# Altium footprint library WR-FAST.PcbLib: 56 footprints (part 2 of 4)
Each footprint in its own frame and in the unit in brackets; x right, y up, seen from the top. Pads: shape width x height; smd on the part's side, far side on the other; paste and mask are expansions set on the pad; w line width, h text height; cw(c..) or ccw(c..) is an arc to the next point about the centre after c.
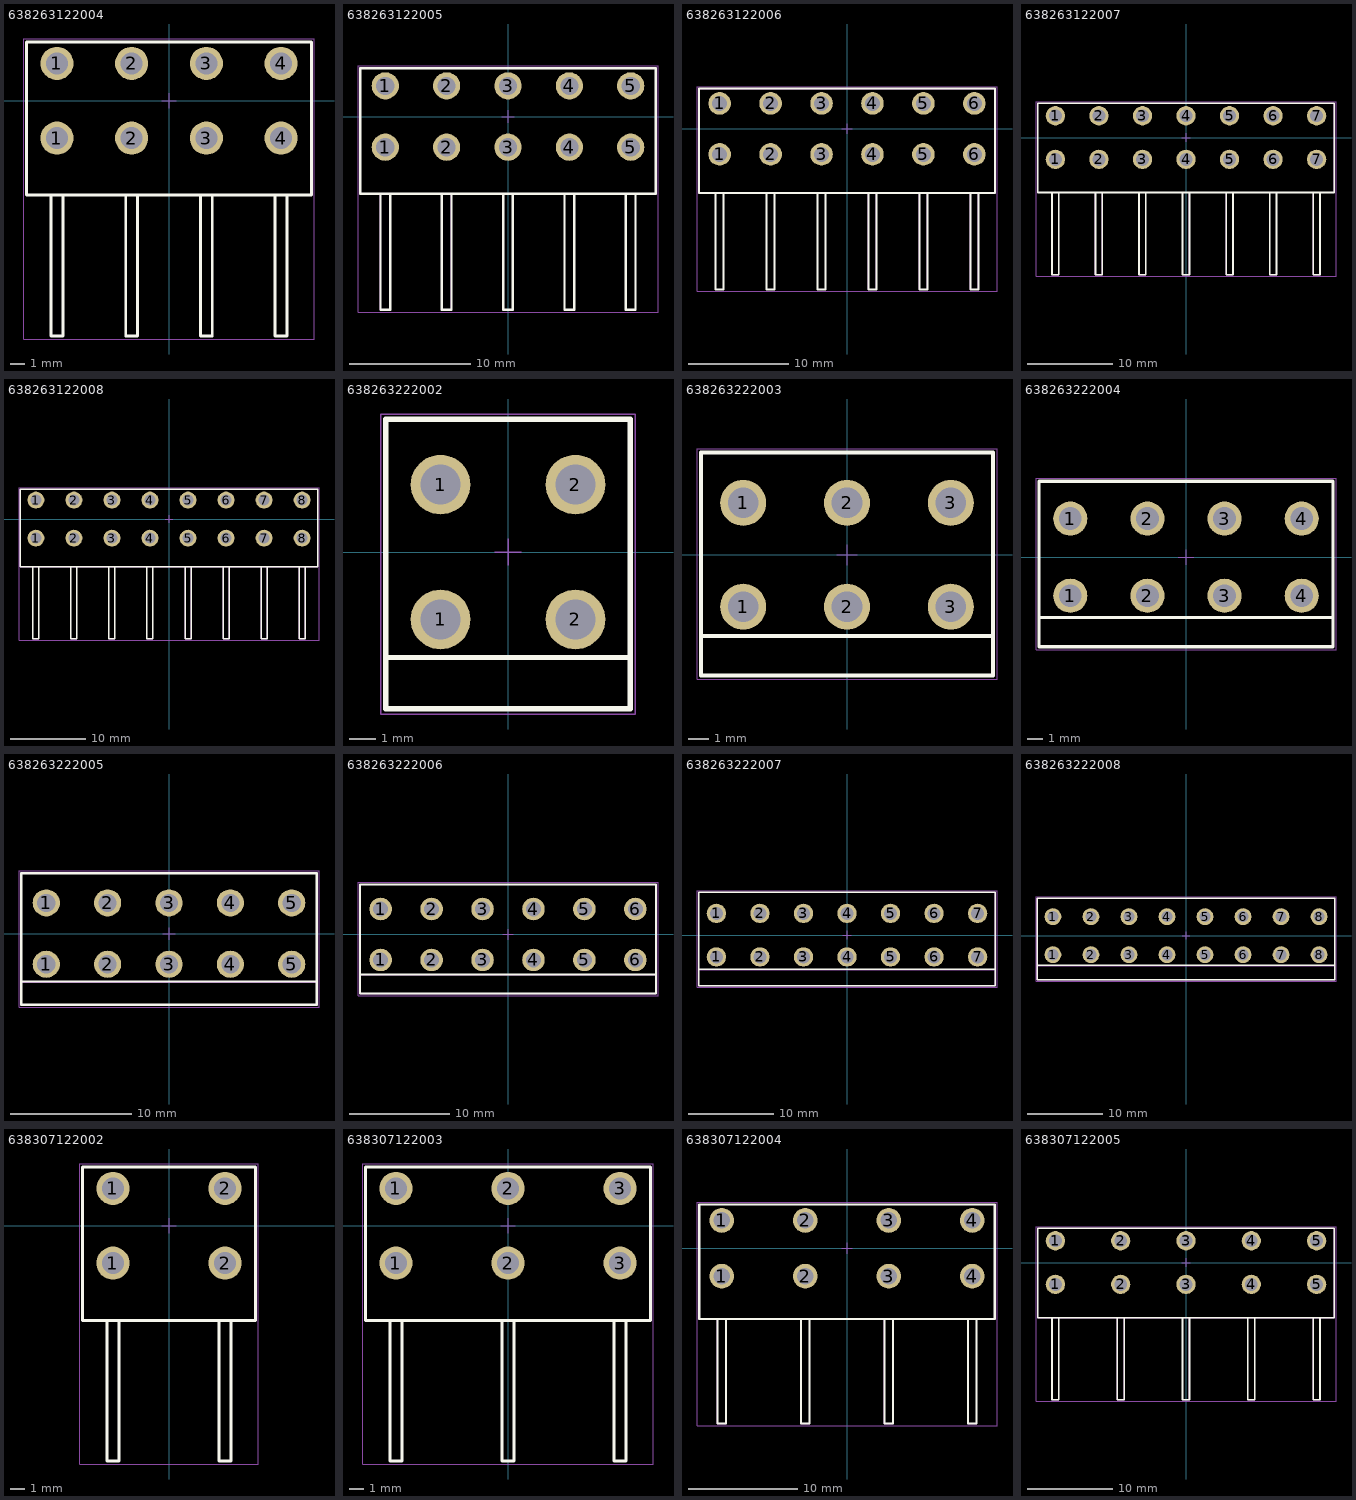
[diagram p1: the footprints below, top view; thin cyan lines are the x and y axes]

## 638263122004 [mm] "5.08mm THT Male Right Angled Header Blade 6.3, 4p"
height 11
pads (8):
  round 2.25 hole 1.5: 1(-7.62,-2.54) 1(-7.62,2.54) 2(-2.54,-2.54) 2(-2.54,2.54) 3(2.54,-2.54) 3(2.54,2.54) 4(7.62,-2.54) 4(7.62,2.54)
Top Overlay:
  lines w0.2: -8.02,-6.4 -8.02,-16 -7.22,-16 -7.22,-6.4 ; -2.94,-6.4 -2.94,-16 -2.14,-16 -2.14,-6.4 ; 2.14,-6.4 2.14,-16 2.94,-16 2.94,-6.4 ; 7.22,-6.4 7.22,-16 8.02,-16 8.02,-6.4 ; -9.68,-6.4 -9.68,4 9.68,4 9.68,-6.4 -9.68,-6.4
Top Designator:
  text ".Designator" at -7.498,-0.5 h1.5
Top Component Outline:
  lines w0.1: -8.02,-6.4 -8.02,-16 -7.22,-16 -7.22,-6.4 ; -2.94,-6.4 -2.94,-16 -2.14,-16 -2.14,-6.4 ; 2.14,-6.4 2.14,-16 2.94,-16 2.94,-6.4 ; 7.22,-6.4 7.22,-16 8.02,-16 8.02,-6.4 ; -9.68,-6.4 9.68,-6.4 9.68,4 -9.68,4 -9.68,-6.4
Top Courtyard:
  lines w0.05: -0.5,0 0.5,0 ; 0,-0.5 0,0.5 ; -9.88,-16.2 -9.88,4.2 9.88,4.2 9.88,-16.2 -9.88,-16.2
3D body "638263122004.stp": height 11.3, standoff -3.5, extent -9.68,-16.049 9.68,4

## 638263122005 [mm] "5.08mm THT Male Right Angled Header Blade 6.3, 5p"
height 11
pads (10):
  round 2.25 hole 1.5: 1(-10.16,-2.54) 1(-10.16,2.54) 2(-5.08,-2.54) 2(-5.08,2.54) 3(0,-2.54) 3(0,2.54) 4(5.08,-2.54) 4(5.08,2.54) 5(10.16,-2.54) 5(10.16,2.54)
Top Overlay:
  lines w0.2: -10.56,-6.4 -10.56,-16 -9.76,-16 -9.76,-6.4 ; -5.48,-6.4 -5.48,-16 -4.68,-16 -4.68,-6.4 ; -0.4,-6.4 -0.4,-16 0.4,-16 0.4,-6.4 ; 4.68,-6.4 4.68,-16 5.48,-16 5.48,-6.4 ; 9.76,-6.4 9.76,-16 10.56,-16 10.56,-6.4 ; -12.22,-6.4 12.22,-6.4 12.22,4 -12.22,4 -12.22,-6.4
Top Designator:
  text ".Designator" at -7.498,-0.5 h1.5
Top Component Outline:
  lines w0.1: -10.56,-6.4 -10.56,-16 -9.76,-16 -9.76,-6.4 ; -5.48,-6.4 -5.48,-16 -4.68,-16 -4.68,-6.4 ; -0.4,-6.4 -0.4,-16 0.4,-16 0.4,-6.4 ; 4.68,-6.4 4.68,-16 5.48,-16 5.48,-6.4 ; 9.76,-6.4 9.76,-16 10.56,-16 10.56,-6.4 ; -12.22,-6.4 -12.22,4 12.22,4 12.22,-6.4 -12.22,-6.4
Top Courtyard:
  lines w0.05: -0.5,0 0.5,0 ; 0,-0.5 0,0.5 ; -12.42,-16.2 12.42,-16.2 12.42,4.2 -12.42,4.2 -12.42,-16.2
3D body "638263122005.stp": height 11.3, standoff -3.5, extent -12.22,-16.049 12.22,4

## 638263122006 [mm] "5.08mm THT Male Right Angled Header Blade 6.3, 6p"
height 11
pads (12):
  round 2.25 hole 1.5: 1(-12.7,-2.54) 1(-12.7,2.54) 2(-7.62,-2.54) 2(-7.62,2.54) 3(-2.54,-2.54) 3(-2.54,2.54) 4(2.54,-2.54) 4(2.54,2.54) 5(7.62,-2.54) 5(7.62,2.54) 6(12.7,-2.54) 6(12.7,2.54)
Top Overlay:
  lines w0.2: -13.1,-6.4 -13.1,-16 -12.3,-16 -12.3,-6.4 ; -8.02,-6.4 -8.02,-16 -7.22,-16 -7.22,-6.4 ; -2.94,-6.4 -2.94,-16 -2.14,-16 -2.14,-6.4 ; 2.14,-6.4 2.14,-16 2.94,-16 2.94,-6.4 ; 7.22,-6.4 7.22,-16 8.02,-16 8.02,-6.4 ; 12.3,-6.4 12.3,-16 13.1,-16 13.1,-6.4 ; -14.76,-6.4 14.76,-6.4 14.76,4 -14.76,4 -14.76,-6.4
Top Designator:
  text ".Designator" at -7.498,-0.5 h1.5
Top Component Outline:
  lines w0.1: -13.1,-6.4 -13.1,-16 -12.3,-16 -12.3,-6.4 ; -8.02,-6.4 -8.02,-16 -7.22,-16 -7.22,-6.4 ; -2.94,-6.4 -2.94,-16 -2.14,-16 -2.14,-6.4 ; 2.14,-6.4 2.14,-16 2.94,-16 2.94,-6.4 ; 7.22,-6.4 7.22,-16 8.02,-16 8.02,-6.4 ; 12.3,-6.4 12.3,-16 13.1,-16 13.1,-6.4 ; -14.76,-6.4 -14.76,4 14.76,4 14.76,-6.4 -14.76,-6.4
Top Courtyard:
  lines w0.05: -0.5,0 0.5,0 ; 0,-0.5 0,0.5 ; -14.96,-16.2 14.96,-16.2 14.96,4.2 -14.96,4.2 -14.96,-16.2
3D body "638263122006.stp": height 11.3, standoff -3.5, extent -14.76,-16.049 14.76,4

## 638263122007 [mm] "5.08mm THT Male Right Angled Header Blade 6.3, 7p"
height 11
pads (14):
  round 2.25 hole 1.5: 1(-15.24,-2.54) 1(-15.24,2.54) 2(-10.16,-2.54) 2(-10.16,2.54) 3(-5.08,-2.54) 3(-5.08,2.54) 4(0,-2.54) 4(0,2.54) 5(5.08,-2.54) 5(5.08,2.54) 6(10.16,-2.54) 6(10.16,2.54) 7(15.24,-2.54) 7(15.24,2.54)
Top Overlay:
  lines w0.2: -15.64,-6.4 -15.64,-16 -14.84,-16 -14.84,-6.4 ; -10.56,-6.4 -10.56,-16 -9.76,-16 -9.76,-6.4 ; -5.48,-6.4 -5.48,-16 -4.68,-16 -4.68,-6.4 ; -0.4,-6.4 -0.4,-16 0.4,-16 0.4,-6.4 ; 4.68,-6.4 4.68,-16 5.48,-16 5.48,-6.4 ; 9.76,-6.4 9.76,-16 10.56,-16 10.56,-6.4 ; 14.84,-6.4 14.84,-16 15.64,-16 15.64,-6.4 ; -17.3,-6.4 -17.3,4 17.3,4 17.3,-6.4 -17.3,-6.4
Top Designator:
  text ".Designator" at -7.498,-0.5 h1.5
Top Component Outline:
  lines w0.1: -15.64,-6.4 -15.64,-16 -14.84,-16 -14.84,-6.4 ; -10.56,-6.4 -10.56,-16 -9.76,-16 -9.76,-6.4 ; -5.48,-6.4 -5.48,-16 -4.68,-16 -4.68,-6.4 ; -0.4,-6.4 -0.4,-16 0.4,-16 0.4,-6.4 ; 4.68,-6.4 4.68,-16 5.48,-16 5.48,-6.4 ; 9.76,-6.4 9.76,-16 10.56,-16 10.56,-6.4 ; 14.84,-6.4 14.84,-16 15.64,-16 15.64,-6.4 ; -17.3,-6.4 17.3,-6.4 17.3,4 -17.3,4 -17.3,-6.4
Top Courtyard:
  lines w0.05: -0.5,0 0.5,0 ; 0,-0.5 0,0.5 ; -17.5,-16.2 -17.5,4.2 17.5,4.2 17.5,-16.2 -17.5,-16.2
3D body "638263122007.stp": height 11.3, standoff -3.5, extent -17.3,-16.049 17.3,4

## 638263122008 [mm] "5.08mm THT Male Right Angled Header Blade 6.3, 8p"
height 11
pads (16):
  round 2.25 hole 1.5: 1(-17.78,-2.54) 1(-17.78,2.54) 2(-12.7,-2.54) 2(-12.7,2.54) 3(-7.62,-2.54) 3(-7.62,2.54) 4(-2.54,-2.54) 4(-2.54,2.54) 5(2.54,-2.54) 5(2.54,2.54) 6(7.62,-2.54) 6(7.62,2.54) 7(12.7,-2.54) 7(12.7,2.54) 8(17.78,-2.54) 8(17.78,2.54)
Top Overlay:
  lines w0.2: -18.18,-6.4 -18.18,-16 -17.38,-16 -17.38,-6.4 ; -13.1,-6.4 -13.1,-16 -12.3,-16 -12.3,-6.4 ; -8.02,-6.4 -8.02,-16 -7.22,-16 -7.22,-6.4 ; -2.94,-6.4 -2.94,-16 -2.14,-16 -2.14,-6.4 ; 2.14,-6.4 2.14,-16 2.94,-16 2.94,-6.4 ; 7.22,-6.4 7.22,-16 8.02,-16 8.02,-6.4 ; 12.3,-6.4 12.3,-16 13.1,-16 13.1,-6.4 ; 17.38,-6.4 17.38,-16 18.18,-16 18.18,-6.4 ; -19.84,-6.4 19.84,-6.4 19.84,4 -19.84,4 -19.84,-6.4
Top Designator:
  text ".Designator" at -7.498,-0.5 h1.5
Top Component Outline:
  lines w0.1: -18.18,-6.4 -18.18,-16 -17.38,-16 -17.38,-6.4 ; -13.1,-6.4 -13.1,-16 -12.3,-16 -12.3,-6.4 ; -8.02,-6.4 -8.02,-16 -7.22,-16 -7.22,-6.4 ; -2.94,-6.4 -2.94,-16 -2.14,-16 -2.14,-6.4 ; 2.14,-6.4 2.14,-16 2.94,-16 2.94,-6.4 ; 7.22,-6.4 7.22,-16 8.02,-16 8.02,-6.4 ; 12.3,-6.4 12.3,-16 13.1,-16 13.1,-6.4 ; 17.38,-6.4 17.38,-16 18.18,-16 18.18,-6.4 ; -19.84,-6.4 -19.84,4 19.84,4 19.84,-6.4 -19.84,-6.4
Top Courtyard:
  lines w0.05: -0.5,0 0.5,0 ; 0,-0.5 0,0.5 ; -20.04,-16.2 20.04,-16.2 20.04,4.2 -20.04,4.2 -20.04,-16.2
3D body "638263122008.stp": height 11.3, standoff -3.5, extent -19.84,-16.049 19.84,4

## 638263222002 [mm] "5.08mm THT Male Vertical Header Blade 6.3, 2p"
height 21
pads (4):
  round 2.25 hole 1.5: 1(-2.54,-2.54) 1(-2.54,2.54) 2(2.54,-2.54) 2(2.54,2.54)
Top Overlay:
  lines w0.2: -4.6,-3.97 4.6,-3.97 ; -4.6,-5.9 -4.6,5 4.6,5 4.6,-5.9 -4.6,-5.9
Top Designator:
  text ".Designator" at -7.498,-0.5 h1.5
Top Component Outline:
  lines w0.1: -4.6,-4.02 4.6,-4.02 ; -4.6,-5.9 4.6,-5.9 4.6,5 -4.6,5 -4.6,-5.9
Top Courtyard:
  lines w0.05: -0.5,0 0.5,0 ; 0,-0.5 0,0.5 ; -4.8,-6.1 4.8,-6.1 4.8,5.2 -4.8,5.2 -4.8,-6.1
3D body "638263222002.stp": height 21.1, standoff -3.9, extent -4.6,-6.1 4.6,4.8

## 638263222003 [mm] "5.08mm THT Male Vertical Header Blade 6.3, 3p"
height 21
pads (6):
  round 2.25 hole 1.5: 1(-5.08,-2.54) 1(-5.08,2.54) 2(0,-2.54) 2(0,2.54) 3(5.08,-2.54) 3(5.08,2.54)
Top Overlay:
  lines w0.2: -7.14,-3.97 7.14,-3.97 ; -7.14,-5.9 7.14,-5.9 7.14,5 -7.14,5 -7.14,-5.9
Top Designator:
  text ".Designator" at -7.498,-0.5 h1.5
Top Component Outline:
  lines w0.1: -7.14,-4.02 7.14,-4.02 ; -7.14,-5.9 -7.14,5 7.14,5 7.14,-5.9 -7.14,-5.9
Top Courtyard:
  lines w0.05: -0.5,0 0.5,0 ; 0,-0.5 0,0.5 ; -7.34,-6.1 -7.34,5.2 7.34,5.2 7.34,-6.1 -7.34,-6.1
3D body "638263222003.stp": height 21.15, standoff -3.85, extent -7.14,-6.436 7.14,4.8

## 638263222004 [mm] "5.08mm THT Male Vertical Header Blade 6.3, 4p"
height 21
pads (8):
  round 2.25 hole 1.5: 1(-7.62,-2.54) 1(-7.62,2.54) 2(-2.54,-2.54) 2(-2.54,2.54) 3(2.54,-2.54) 3(2.54,2.54) 4(7.62,-2.54) 4(7.62,2.54)
Top Overlay:
  lines w0.2: -9.68,-3.97 9.68,-3.97 ; -9.68,-5.9 -9.68,5 9.68,5 9.68,-5.9 -9.68,-5.9
Top Designator:
  text ".Designator" at -7.498,-0.5 h1.5
Top Component Outline:
  lines w0.1: -9.68,-4.02 9.68,-4.02 ; -9.68,-5.9 9.68,-5.9 9.68,5 -9.68,5 -9.68,-5.9
Top Courtyard:
  lines w0.05: -0.5,0 0.5,0 ; 0,-0.5 0,0.5 ; -9.88,-6.1 9.88,-6.1 9.88,5.2 -9.88,5.2 -9.88,-6.1
3D body "638263222004.stp": height 21.15, standoff -3.85, extent -9.68,-6.436 9.68,4.8

## 638263222005 [mm] "5.08mm THT Male Vertical Header Blade 6.3, 5p"
height 21
pads (10):
  round 2.25 hole 1.5: 1(-10.16,-2.54) 1(-10.16,2.54) 2(-5.08,-2.54) 2(-5.08,2.54) 3(0,-2.54) 3(0,2.54) 4(5.08,-2.54) 4(5.08,2.54) 5(10.16,-2.54) 5(10.16,2.54)
Top Overlay:
  lines w0.2: -12.22,-3.97 12.22,-3.97 ; -12.22,-5.9 -12.22,5 12.22,5 12.22,-5.9 -12.22,-5.9
Top Designator:
  text ".Designator" at -7.498,-0.5 h1.5
Top Component Outline:
  lines w0.1: -12.22,-4.02 12.22,-4.02 ; -12.22,-5.9 12.22,-5.9 12.22,5 -12.22,5 -12.22,-5.9
Top Courtyard:
  lines w0.05: -0.5,0 0.5,0 ; 0,-0.5 0,0.5 ; -12.42,-6.1 12.42,-6.1 12.42,5.2 -12.42,5.2 -12.42,-6.1
3D body "638263222005.stp": height 21.15, standoff -3.85, extent -12.22,-6.436 12.22,4.8

## 638263222006 [mm] "5.08mm THT Male Vertical Header Blade 6.3, 6p"
height 21
pads (12):
  round 2.25 hole 1.5: 1(-12.7,-2.54) 1(-12.7,2.54) 2(-7.62,-2.54) 2(-7.62,2.54) 3(-2.54,-2.54) 3(-2.54,2.54) 4(2.54,-2.54) 4(2.54,2.54) 5(7.62,-2.54) 5(7.62,2.54) 6(12.7,-2.54) 6(12.7,2.54)
Top Overlay:
  lines w0.2: -14.76,-3.97 14.76,-3.97 ; -14.76,-5.9 -14.76,5 14.76,5 14.76,-5.9 -14.76,-5.9
Top Designator:
  text ".Designator" at -7.498,-0.5 h1.5
Top Component Outline:
  lines w0.1: -14.76,-4.02 14.76,-4.02 ; -14.76,-5.9 14.76,-5.9 14.76,5 -14.76,5 -14.76,-5.9
Top Courtyard:
  lines w0.05: -0.5,0 0.5,0 ; 0,-0.5 0,0.5 ; -14.96,-6.1 14.96,-6.1 14.96,5.2 -14.96,5.2 -14.96,-6.1
3D body "638263222006.stp": height 21.1, standoff -3.9, extent -14.76,-6.1 14.76,4.8

## 638263222007 [mm] "5.08mm THT Male Vertical Header Blade 6.3, 7p"
height 21
pads (14):
  round 2.25 hole 1.5: 1(-15.24,-2.54) 1(-15.24,2.54) 2(-10.16,-2.54) 2(-10.16,2.54) 3(-5.08,-2.54) 3(-5.08,2.54) 4(0,-2.54) 4(0,2.54) 5(5.08,-2.54) 5(5.08,2.54) 6(10.16,-2.54) 6(10.16,2.54) 7(15.24,-2.54) 7(15.24,2.54)
Top Overlay:
  lines w0.2: -17.3,-3.97 17.3,-3.97 ; -17.3,-5.9 17.3,-5.9 17.3,5 -17.3,5 -17.3,-5.9
Top Designator:
  text ".Designator" at -7.498,-0.5 h1.5
Top Component Outline:
  lines w0.1: -17.3,-4.02 17.3,-4.02 ; -17.3,-5.9 -17.3,5 17.3,5 17.3,-5.9 -17.3,-5.9
Top Courtyard:
  lines w0.05: -0.5,0 0.5,0 ; 0,-0.5 0,0.5 ; -17.5,-6.1 -17.5,5.2 17.5,5.2 17.5,-6.1 -17.5,-6.1
3D body "638263222007.stp": height 21.15, standoff -3.85, extent -17.3,-6.436 17.3,4.8

## 638263222008 [mm] "5.08mm THT Male Vertical Header Blade 6.3, 8p"
height 21
pads (16):
  round 2.25 hole 1.5: 1(-17.78,-2.54) 1(-17.78,2.54) 2(-12.7,-2.54) 2(-12.7,2.54) 3(-7.62,-2.54) 3(-7.62,2.54) 4(-2.54,-2.54) 4(-2.54,2.54) 5(2.54,-2.54) 5(2.54,2.54) 6(7.62,-2.54) 6(7.62,2.54) 7(12.7,-2.54) 7(12.7,2.54) 8(17.78,-2.54) 8(17.78,2.54)
Top Overlay:
  lines w0.2: -19.84,-3.97 19.84,-3.97 ; -19.84,-5.9 19.84,-5.9 19.84,5 -19.84,5 -19.84,-5.9
Top Designator:
  text ".Designator" at -7.498,-0.5 h1.5
Top Component Outline:
  lines w0.1: -19.84,-4.02 19.84,-4.02 ; -19.84,-5.9 -19.84,5 19.84,5 19.84,-5.9 -19.84,-5.9
Top Courtyard:
  lines w0.05: -0.5,0 0.5,0 ; 0,-0.5 0,0.5 ; -20.04,-6.1 -20.04,5.2 20.04,5.2 20.04,-6.1 -20.04,-6.1
3D body "638263222008.stp": height 21.15, standoff -3.85, extent -19.84,-6.436 19.84,4.8

## 638307122002 [mm] "7.62mm THT Male Right Angled Header Blade 2863, 2p"
height 11
pads (4):
  round 2.25 hole 1.5: 1(-3.81,-2.54) 1(-3.81,2.54) 2(3.81,-2.54) 2(3.81,2.54)
Top Overlay:
  lines w0.2: -4.21,-6.45 -4.21,-16 -3.41,-16 -3.41,-6.45 ; 3.41,-6.45 3.41,-16 4.21,-16 4.21,-6.45 ; -5.87,-6.45 -5.87,4 5.87,4 5.87,-6.45 -5.87,-6.45
Top Designator:
  text ".Designator" at -7.498,-0.5 h1.5
Top Component Outline:
  lines w0.1: -4.21,-6.45 -4.21,-16 -3.41,-16 -3.41,-6.45 ; 3.41,-6.45 3.41,-16 4.21,-16 4.21,-6.45 ; -5.87,-6.45 5.87,-6.45 5.87,4 -5.87,4 -5.87,-6.45
Top Courtyard:
  lines w0.05: -0.5,0 0.5,0 ; 0,-0.5 0,0.5 ; -6.07,-16.2 -6.07,4.2 6.07,4.2 6.07,-16.2 -6.07,-16.2
3D body "638307122002.stp": height 11.1, standoff -3.9, extent -5.87,-15.95 5.87,4.05

## 638307122003 [mm] "7.62mm THT Male Right Angled Header Blade 2863, 3p"
height 11
pads (6):
  round 2.25 hole 1.5: 1(-7.62,-2.54) 1(-7.62,2.54) 2(0,-2.54) 2(0,2.54) 3(7.62,-2.54) 3(7.62,2.54)
Top Overlay:
  lines w0.2: -8.02,-6.45 -8.02,-16 -7.22,-16 -7.22,-6.45 ; -0.4,-6.45 -0.4,-16 0.4,-16 0.4,-6.45 ; 7.22,-6.45 7.22,-16 8.02,-16 8.02,-6.45 ; -9.68,-6.45 -9.68,4 9.68,4 9.68,-6.45 -9.68,-6.45
Top Designator:
  text ".Designator" at -7.498,-0.5 h1.5
Top Component Outline:
  lines w0.1: -8.02,-6.45 -8.02,-16 -7.22,-16 -7.22,-6.45 ; -0.4,-6.45 -0.4,-16 0.4,-16 0.4,-6.45 ; 7.22,-6.45 7.22,-16 8.02,-16 8.02,-6.45 ; -9.68,-6.45 9.68,-6.45 9.68,4 -9.68,4 -9.68,-6.45
Top Courtyard:
  lines w0.05: -0.5,0 0.5,0 ; 0,-0.5 0,0.5 ; -9.88,-16.2 -9.88,4.2 9.88,4.2 9.88,-16.2 -9.88,-16.2
3D body "638307122003.stp": height 11.1, standoff -3.9, extent -9.68,-16 9.68,4

## 638307122004 [mm] "7.62mm THT Male Right Angled Header Blade 2863, 4p"
height 11
pads (8):
  round 2.25 hole 1.5: 1(-11.43,-2.54) 1(-11.43,2.54) 2(-3.81,-2.54) 2(-3.81,2.54) 3(3.81,-2.54) 3(3.81,2.54) 4(11.43,-2.54) 4(11.43,2.54)
Top Overlay:
  lines w0.2: -11.83,-6.45 -11.83,-16 -11.03,-16 -11.03,-6.45 ; -4.21,-6.45 -4.21,-16 -3.41,-16 -3.41,-6.45 ; 3.41,-6.45 3.41,-16 4.21,-16 4.21,-6.45 ; 11.03,-6.45 11.03,-16 11.83,-16 11.83,-6.45 ; -13.49,-6.45 -13.49,4 13.49,4 13.49,-6.45 -13.49,-6.45
Top Designator:
  text ".Designator" at -7.498,-0.5 h1.5
Top Component Outline:
  lines w0.1: -11.83,-6.45 -11.83,-16 -11.03,-16 -11.03,-6.45 ; -4.21,-6.45 -4.21,-16 -3.41,-16 -3.41,-6.45 ; 3.41,-6.45 3.41,-16 4.21,-16 4.21,-6.45 ; 11.03,-6.45 11.03,-16 11.83,-16 11.83,-6.45 ; -13.49,-6.45 13.49,-6.45 13.49,4 -13.49,4 -13.49,-6.45
Top Courtyard:
  lines w0.05: -0.5,0 0.5,0 ; 0,-0.5 0,0.5 ; -13.69,-16.2 -13.69,4.2 13.69,4.2 13.69,-16.2 -13.69,-16.2
3D body "638307122004.stp": height 11.1, standoff -3.9, extent -13.49,-16 13.49,4

## 638307122005 [mm] "7.62mm THT Male Right Angled Header Blade 2863, 5p"
height 11
pads (10):
  round 2.25 hole 1.5: 1(-15.24,-2.54) 1(-15.24,2.54) 2(-7.62,-2.54) 2(-7.62,2.54) 3(0,-2.54) 3(0,2.54) 4(7.62,-2.54) 4(7.62,2.54) 5(15.24,-2.54) 5(15.24,2.54)
Top Overlay:
  lines w0.2: -15.64,-6.45 -15.64,-16 -14.84,-16 -14.84,-6.45 ; -8.02,-6.45 -8.02,-16 -7.22,-16 -7.22,-6.45 ; -0.4,-6.45 -0.4,-16 0.4,-16 0.4,-6.45 ; 7.22,-6.45 7.22,-16 8.02,-16 8.02,-6.45 ; 14.84,-6.45 14.84,-16 15.64,-16 15.64,-6.45 ; -17.3,-6.45 -17.3,4 17.3,4 17.3,-6.45 -17.3,-6.45
Top Designator:
  text ".Designator" at -7.498,-0.5 h1.5
Top Component Outline:
  lines w0.1: -15.64,-6.45 -15.64,-16 -14.84,-16 -14.84,-6.45 ; -8.02,-6.45 -8.02,-16 -7.22,-16 -7.22,-6.45 ; -0.4,-6.45 -0.4,-16 0.4,-16 0.4,-6.45 ; 7.22,-6.45 7.22,-16 8.02,-16 8.02,-6.45 ; 14.84,-6.45 14.84,-16 15.64,-16 15.64,-6.45 ; -17.3,-6.45 17.3,-6.45 17.3,4 -17.3,4 -17.3,-6.45
Top Courtyard:
  lines w0.05: -0.5,0 0.5,0 ; 0,-0.5 0,0.5 ; -17.5,-16.2 -17.5,4.2 17.5,4.2 17.5,-16.2 -17.5,-16.2
3D body "638307122005.stp": height 11.1, standoff -3.9, extent -17.3,-16 17.3,4